# EAGLE library part L293E (library Tinkercad)
L293D H-bridge motor driver Datasheet <https://www.ti.com/lit/ds/symlink/l293.pdf>
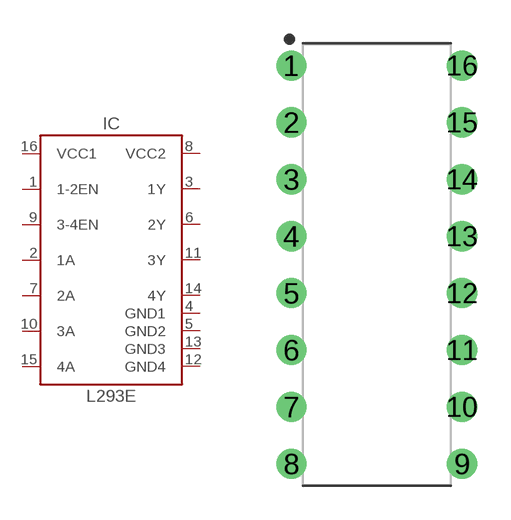
[diagram p0: symbol with the pads of DIP762W53P254L1969H508Q16B; footprint DIP762W53P254L1969H508Q16B]

Designator prefix IC

## L293E  [DIP762W53P254L1969H508Q16B]
1  1-2EN  in
2  1A  in
3  1Y  out
4  GND1  pas
5  GND2  pas
6  2Y  out
7  2A  in
8  VCC2  pas
9  3-4EN  in
10  3A  in
11  3Y  out
12  GND4  pas
13  GND3  pas
14  4Y  out
15  4A  in
16  VCC1  pas

## Footprint DIP762W53P254L1969H508Q16B (pad centres in mm)
16-DIP, 2.54 mm (0.10 in) pitch, 7.62 mm (0.30 in) span, 19.69 X 6.6 X 5.08 mm body 16-pin DIP package with 2.54 mm (0.10 in) pitch, 7.62 mm (0.30 in) span with body size 19.69 X 6.6 X 5.08 mm
drill 0.743 pad 1.343: 1 -3.81,8.89; 2 -3.81,6.35; 3 -3.81,3.81; 4 -3.81,1.27; 5 -3.81,-1.27; 6 -3.81,-3.81; 7 -3.81,-6.35; 8 -3.81,-8.89; 9 3.81,-8.89; 10 3.81,-6.35; 11 3.81,-3.81; 12 3.81,-1.27; 13 3.81,1.27; 14 3.81,3.81; 15 3.81,6.35; 16 3.81,8.89